# EAGLE library part USB_MINI (library Let'sMakeMyFabduino)
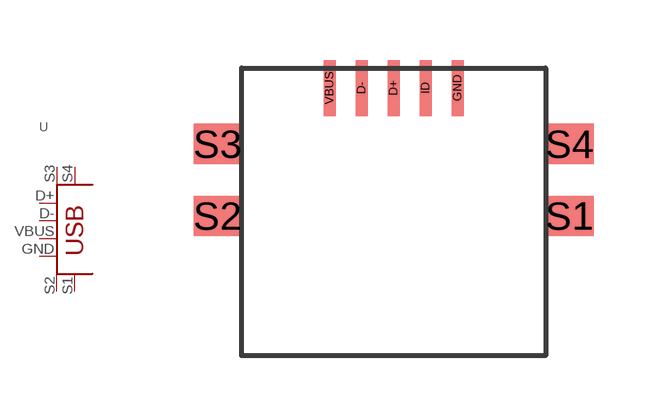
[diagram p6: symbol with the pads of MINIUSB; footprint MINIUSB]

Designator prefix -

## USB_MINI  [MINIUSB]
D+  D+
D-  D-
GND  GND
S1  SHIELD1  pas
S2  SHIELD2  pas
S3  SHIELD3  pas
S4  SHIELD4  pas
VBUS  VBUS

## Footprint MINIUSB (pad centres in mm)
smd 0.3 x 1.4: D+ 0,0.7; D- -0.8,0.7; GND 1.6,0.7; ID 0.8,0.7; VBUS -1.6,0.7
smd 1.2 x 1: S1 4.4,-2.5; S2 -4.4,-2.5; S3 -4.4,-0.7; S4 4.4,-0.7